# Altium footprint library ESP-WROOM-32D.PcbLib: 1 footprints
Each footprint in its own frame and in the unit in brackets; x right, y up, seen from the top. Pads: shape width x height; smd on the part's side, far side on the other; paste and mask are expansions set on the pad; w line width, h text height; cw(c..) or ccw(c..) is an arc to the next point about the centre after c.
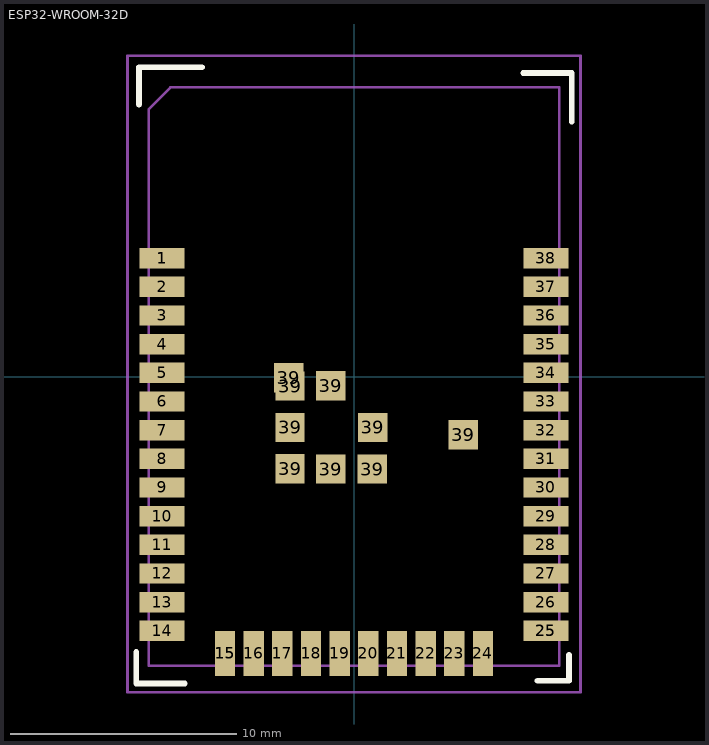
[diagram p0: the footprint, top view; thin cyan lines are the x and y axes]

## ESP32-WROOM-32D [mm]
height 3.2
pads (50):
  rect 2x0.9 smd: 1(-8.5,5.26) 1(-8.5,5.26) 2(-8.5,3.99) 3(-8.5,2.72) 4(-8.5,1.45) 5(-8.5,0.18) 6(-8.5,-1.09) 7(-8.5,-2.36) 8(-8.5,-3.63) 9(-8.5,-4.9) 10(-8.5,-6.17) 11(-8.5,-7.44) 12(-8.5,-8.71) 13(-8.5,-9.98) 14(-8.5,-11.25) 25(8.5,-11.25) 25(8.5,-11.25) 26(8.5,-9.98) 27(8.5,-8.71) 28(8.5,-7.44) 29(8.5,-6.17) 30(8.5,-4.9) 31(8.5,-3.63) 32(8.5,-2.36) 33(8.5,-1.09) 34(8.5,0.18) 35(8.5,1.45) 36(8.5,2.72) 37(8.5,3.99) 38(8.5,5.26)
  rect 0.9x2 smd: 15(-5.715,-12.25) 15(-5.715,-12.25) 16(-4.445,-12.25) 17(-3.175,-12.25) 18(-1.905,-12.25) 19(-0.635,-12.25) 20(0.635,-12.25) 21(1.905,-12.25) 22(3.175,-12.25) 23(4.445,-12.25) 24(5.715,-12.25)
  rect 1.3x1.3 smd: 39(-2.893,-0.034) 39(-2.835,-4.075) 39(-2.835,-2.24) 39(-2.835,-0.405) 39(-1.03,-4.083) 39(-1.03,-0.397) 39(0.805,-4.083) 39(0.835,-2.24) 39(4.841,-2.569)
Top Overlay:
  lines w0.254: -9.652,-12.192 -9.652,-13.589 -7.493,-13.589 ; -9.525,12.065 -9.525,13.716 -6.731,13.716 ; 7.493,13.462 9.652,13.462 9.652,11.303 ; 8.128,-13.462 9.525,-13.462 9.525,-12.319
Top Courtyard (Mech12):
  lines w0.12: -10.033,-1.984 -10.033,-0.407 ; -10.033,-1.984 -10.033,-2.264 -10.033,-4.401 -10.033,-11.449 -10.033,-13.97 -9.1,-13.97 -6.734,-13.97 -6.683,-13.97 -3.147,-13.97 4.08,-13.97 7.616,-13.97 7.667,-13.97 10.033,-13.97 10.033,-5.46 10.033,5.487 10.033,8.955 10.033,10.292 10.033,12.827 10.033,14.224 7.843,14.224 3.853,14.224 -2.92,14.224 -7.703,14.224 -9.619,14.224 -10.033,14.224 -10.033,12.7 -10.033,1.778 -10.033,0.889 -10.033,0.648 -10.033,-0.14 -10.033,-0.407 ; -10.033,-1.984 -10.033,-0.407
Top Assembly:
  lines w0.12: -9.1,-12.8 -9.1,11.43 -9.1,11.855 -8.128,12.827 9.1,12.827 9.1,-12.8 -9.1,-12.8
  text ".designator" at -3.575,0.921 h1.52
3D body "ESP-32 .step": height 2.61, standoff -0.1, extent -8.95,-12.7 8.95,12.7